# EAGLE library part MCP6L04T (library IC)
Quad RR OpAmp 1.8 - 6V Outputs are rail short safe
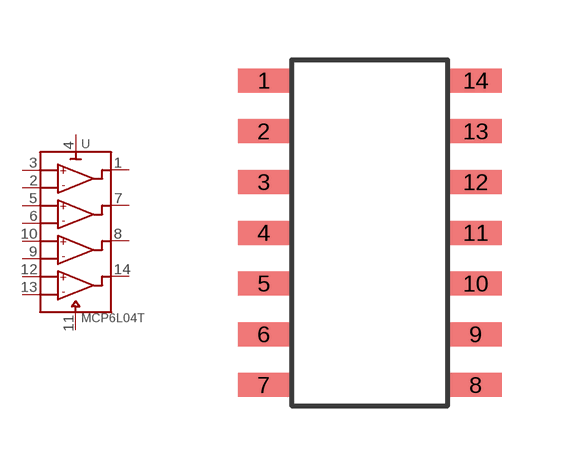
[diagram p15: symbol with the pads of SOIC-3.9MM-14; footprint SOIC-3.9MM-14]

Designator prefix U

## MCP6L04T (MPN: MCP6L04T-E/SL)  [SOIC-3.9MM-14]
1  1O
2  1-
3  1+
4  VCC
5  2+
6  2-
7  2O
8  3O
9  3-
10  3+
11  GND
12  4+
13  4-
14  4O

## Footprint SOIC-3.9MM-14 (pad centres in mm)
smd 1.3 x 0.6: 1 -2.65,3.81; 2 -2.65,2.54; 3 -2.65,1.27; 4 -2.65,0; 5 -2.65,-1.27; 6 -2.65,-2.54; 7 -2.65,-3.81; 8 2.65,-3.81; 9 2.65,-2.54; 10 2.65,-1.27; 11 2.65,0; 12 2.65,1.27; 13 2.65,2.54; 14 2.65,3.81